# Altium integrated library Power Supply Items - External Power Supplies.IntLib: 7 symbols
Pins are listed as number, name and electrical type; pins without a type are passive.

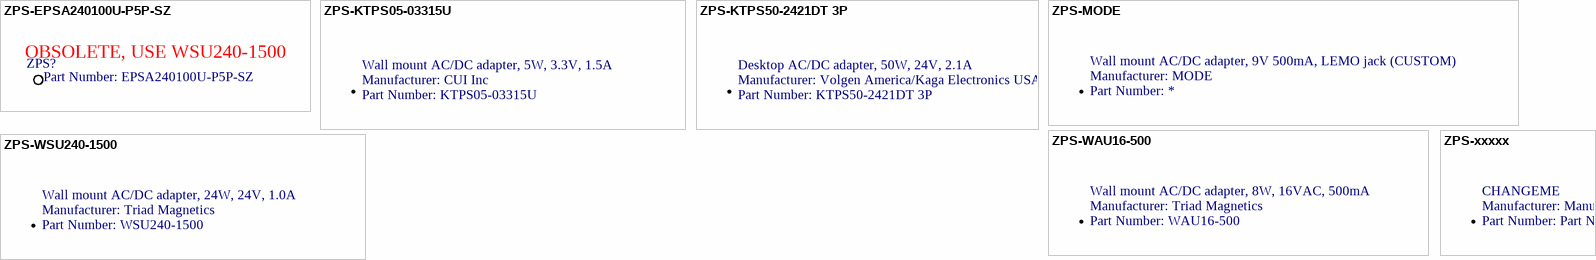
[diagram p0: symbols ZPS-EPSA240100U-P5P-SZ to ZPS-xxxxx]

## ZPS-EPSA240100U-P5P-SZ
designator ZPS?, comment EPSA240100U-P5P-SZ  (mechanical)
Wall mount AC/DC adapter, 24W, 24V, 1.0A; Manufacturer: CUI Inc; Polarization: Positive Center; Voltage (Output): 24VDC; Connector Type: Barrel Plug, 2.1mm I.D. x 5.5mm O.D. x 9.5mm; Mates With: 2.1mmx5.5mm Barrel Jack; Current Output (Max): 1.0A; Form: Wall mount; Power(Watts): 24W; Supplier 1: Digi-Key; Supplier Part Number 1: T1073-P5P-ND; Supplier 2: Mouser; Supplier Part Number 2: 490-EPSA240100UP5PSZ; Part Number: EPSA240100U-P5P-SZ; ComponentLink1Description: Datasheet
text: OBSOLETE, USE WSU240-1500

## ZPS-KTPS05-03315U
designator ZPS?, comment Manufacturer: CUI Inc  (hidden comment: KTPS05-03315U)  (mechanical)
Wall mount AC/DC adapter, 5W, 3.3V, 1.5A; Polarization: Positive Center; Voltage (Output): 3.3VDC; Connector Type: Barrel Plug, 2.1mm I.D. x 5.5mm O.D. x 9.5mm; Mates With: 2.1mmx5.5mm Barrel Jack; Current Output (Max): 1.5A; Form: Wall mount; Power(Watts): 5W; Supplier 1: Digi-Key; Supplier Part Number 1: 62-1165-ND; ComponentLink1Description: Datasheet; Part Number: KTPS05-03315U
text: .

## ZPS-KTPS50-2421DT 3P
designator ZPS?, comment Manufacturer: Volgen America/Kaga Electronics USA  (hidden comment: KTPS50-2421DT 3P)  (mechanical)
Desktop AC/DC adapter, 50W, 24V, 2.1A; Polarization: Positive Center; Voltage (Output): 24V DC; Form: Wall mount; Connector Type: Barrel Plug, 2.1mm I.D. x 5.5mm O.D. x 9.5mm; Mates With: 2.1mmx5.5mm Barrel Jack; Current Output (Max): 2.1A; Power(Watts): 50W; ComponentLink1URL: \\canopus\EDA\Datasheets\External Power Supplies\40_50Watt_Series.pdf; ComponentLink1Description: Datasheet; Supplier 1: Digi-Key; Supplier Part Number 1: 62-1178-ND; Part Number: KTPS50-2421DT 3P
text: .

## ZPS-MODE
designator ZPS?, comment Manufacturer: MODE  (hidden comment: KTPS05-03315U)  (mechanical)
Wall mount AC/DC adapter, 9V 500mA, LEMO jack (CUSTOM); Polarization: Pin 1 Positive; Voltage (Output): 9VDC; Connector Type: Lemo, FFA.0S.302.CLAC42; Power(Watts): 11W; Current Output (Max): 500mA; Form: Wall Mount; ComponentLink1Description: Datasheet; Part Number: *
text: .

## ZPS-WAU16-500
designator ZPS?, comment Manufacturer: Triad Magnetics  (hidden comment: WAU16-500)  (mechanical)
Wall mount AC/DC adapter, 8W, 16VAC, 500mA; Connector Type: Barrel Plug, 2.1mm I.D. x 5.5mm O.D. x 9.5mm; Mates With: 2.1mmx5.5mm Barrel Jack; Current Output (Max): 500mA; Polarization: N/A; Voltage (Output): 16VAC; Form: Wall mount; Power(Watts): 8W; Supplier 1: Mouser; Supplier Part Number 1: 553-WAU16-500; Supplier 2: Newark; Supplier Part Number 2: 96M0304; Supplier 3: Allied; Supplier Part Number 3: 70218018; ComponentLink1Description: Datasheet; Part Number: WAU16-500
text: .

## ZPS-WSU240-1500
designator ZPS?, comment Manufacturer: Triad Magnetics  (hidden comment: WSU240-1500)  (mechanical)
Wall mount AC/DC adapter, 24W, 24V, 1.0A; Current Output (Max): 1.5A; Polarization: Positive Center; Voltage (Output): 24VDC; Connector Type: Barrel Plug, 2.1mm I.D. x 5.5mm O.D. x 9.5mm; Power(Watts): 36W; Mates With: 2.1mmx5.5mm Barrel Jack; Form: Wall mount; Supplier 1: Digi-Key; Supplier Part Number 1: 237-1447-ND; Supplier 2: Allied; Supplier Part Number 2: 70231110; Supplier 3: Mouser; Supplier Part Number 3: 553-WSU240-1500; Supplier 4: Newark; Supplier Part Number 4: 83T4382; ComponentLink1Description: Datasheet; Part Number: WSU240-1500
text: .

## ZPS-xxxxx
designator ZPS?, comment KTPS05-03315U  (value not drawn)  (mechanical)
CHANGEME; Current Output (Max): -; Polarization: -; Voltage (Output): -; Connector Type: -; Power(Watts): -; ComponentLink1Description: Datasheet; Form: -; Mates With: -; Manufacturer: Manufacturer; Part Number: Part Number
text: .